# Altium footprint library QFPN.PcbLib: 6 footprints
Each footprint in its own frame and in the unit in brackets; x right, y up, seen from the top. Pads: shape width x height; smd on the part's side, far side on the other; paste and mask are expansions set on the pad; w line width, h text height; cw(c..) or ccw(c..) is an arc to the next point about the centre after c.
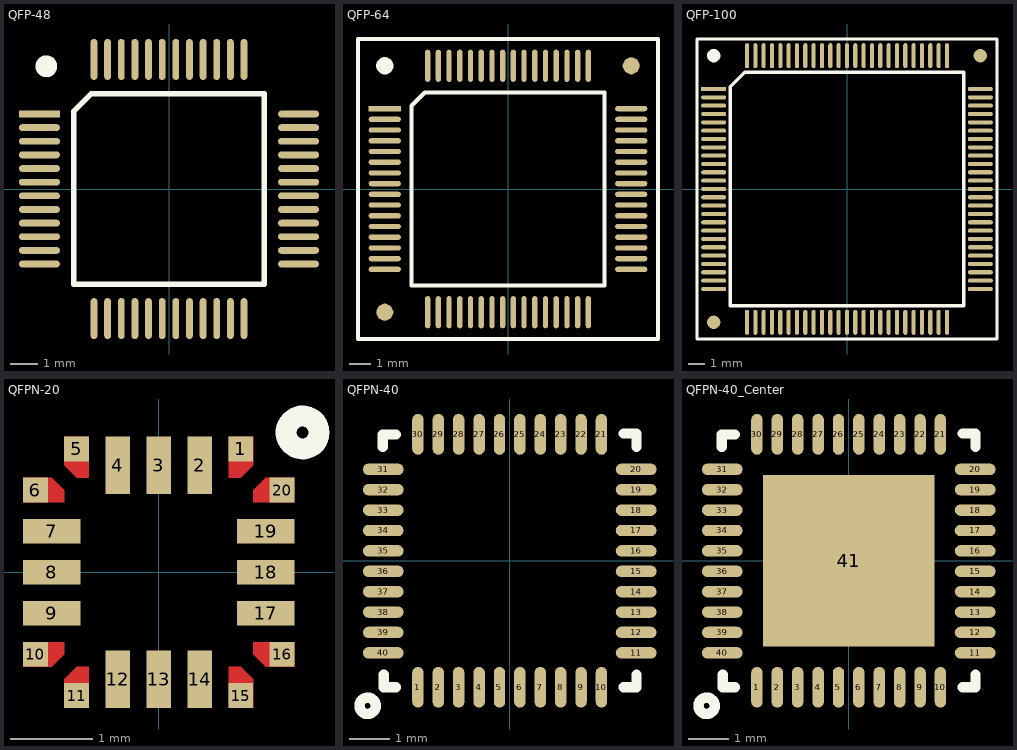
[diagram p0: the footprints below, top view; thin cyan lines are the x and y axes]

## QFP-48 [mm]
pads (48):
  rect 1.5x0.25 smd: 1(-4.75,2.75)
  oval 1.5x0.25 smd: 2(-4.75,2.25) 3(-4.75,1.75) 4(-4.75,1.25) 5(-4.75,0.75) 6(-4.75,0.25) 7(-4.75,-0.25) 8(-4.75,-0.75) 9(-4.75,-1.25) 10(-4.75,-1.75) 11(-4.75,-2.25) 12(-4.75,-2.75) 25(4.75,-2.75) 26(4.75,-2.25) 27(4.75,-1.75) 28(4.75,-1.25) 29(4.75,-0.75) 30(4.75,-0.25) 31(4.75,0.25) 32(4.75,0.75) 33(4.75,1.25) 34(4.75,1.75) 35(4.75,2.25) 36(4.75,2.75)
  oval 0.25x1.5 smd: 13(-2.75,-4.75) 14(-2.25,-4.75) 15(-1.75,-4.75) 16(-1.25,-4.75) 17(-0.75,-4.75) 18(-0.25,-4.75) 19(0.25,-4.75) 20(0.75,-4.75) 21(1.25,-4.75) 22(1.75,-4.75) 23(2.25,-4.75) 24(2.75,-4.75) 37(2.75,4.75) 38(2.25,4.75) 39(1.75,4.75) 40(1.25,4.75) 41(0.75,4.75) 42(0.25,4.75) 43(-0.25,4.75) 44(-0.75,4.75) 45(-1.25,4.75) 46(-1.75,4.75) 47(-2.25,4.75) 48(-2.75,4.75)
Top Overlay:
  circle w0.4: c-4.5,4.5 r0.2
  lines w0.2: -3.5,-3.5 3.5,-3.5 3.5,3.5 -2.85,3.5 -3.5,2.85 -3.5,-3.5

## QFP-64 [mm]
pads (66):
  rect 1.5x0.25 smd: 1(-5.75,3.75)
  oval 1.5x0.25 smd: 2(-5.75,3.25) 3(-5.75,2.75) 4(-5.75,2.25) 5(-5.75,1.75) 6(-5.75,1.25) 7(-5.75,0.75) 8(-5.75,0.25) 9(-5.75,-0.25) 10(-5.75,-0.75) 11(-5.75,-1.25) 12(-5.75,-1.75) 13(-5.75,-2.25) 14(-5.75,-2.75) 15(-5.75,-3.25) 16(-5.75,-3.75) 33(5.75,-3.75) 34(5.75,-3.25) 35(5.75,-2.75) 36(5.75,-2.25) 37(5.75,-1.75) 38(5.75,-1.25) 39(5.75,-0.75) 40(5.75,-0.25) 41(5.75,0.25) 42(5.75,0.75) 43(5.75,1.25) 44(5.75,1.75) 45(5.75,2.25) 46(5.75,2.75) 47(5.75,3.25) 48(5.75,3.75)
  oval 0.25x1.5 smd: 17(-3.75,-5.75) 18(-3.25,-5.75) 19(-2.75,-5.75) 20(-2.25,-5.75) 21(-1.75,-5.75) 22(-1.25,-5.75) 23(-0.75,-5.75) 24(-0.25,-5.75) 25(0.25,-5.75) 26(0.75,-5.75) 27(1.25,-5.75) 28(1.75,-5.75) 29(2.25,-5.75) 30(2.75,-5.75) 31(3.25,-5.75) 32(3.75,-5.75) 49(3.75,5.75) 50(3.25,5.75) 51(2.75,5.75) 52(2.25,5.75) 53(1.75,5.75) 54(1.25,5.75) 55(0.75,5.75) 56(0.25,5.75) 57(-0.25,5.75) 58(-0.75,5.75) 59(-1.25,5.75) 60(-1.75,5.75) 61(-2.25,5.75) 62(-2.75,5.75) 63(-3.25,5.75) 64(-3.75,5.75)
  round 0.8 smd: ""(-5.75,-5.75) ""(5.75,5.75)
Top Overlay:
  circle w0.4: c-5.75,5.75 r0.2
  lines w0.2: -7,-7 -7,7 7,7 7,-7 -7,-7 ; -4.5,-4.5 4.5,-4.5 4.5,4.5 -3.882,4.5 -4.5,3.882 -4.5,-4.5
3D body "lqfp64.sldprt": height 1.6, standoff 0, extent -6.006,-6.006 6.006,6.006

## QFP-100 [mm]
pads (102):
  rect 1.5x0.25 smd: 1(-8,6)
  oval 1.5x0.25 smd: 2(-8,5.5) 3(-8,5) 4(-8,4.5) 5(-8,4) 6(-8,3.5) 7(-8,3) 8(-8,2.5) 9(-8,2) 10(-8,1.5) 11(-8,1) 12(-8,0.5) 13(-8,0) 14(-8,-0.5) 15(-8,-1) 16(-8,-1.5) 17(-8,-2) 18(-8,-2.5) 19(-8,-3) 20(-8,-3.5) 21(-8,-4) 22(-8,-4.5) 23(-8,-5) 24(-8,-5.5) 25(-8,-6) 51(8,-6) 52(8,-5.5) 53(8,-5) 54(8,-4.5) 55(8,-4) 56(8,-3.5) 57(8,-3) 58(8,-2.5) 59(8,-2) 60(8,-1.5) 61(8,-1) 62(8,-0.5) 63(8,0) 64(8,0.5) 65(8,1) 66(8,1.5) 67(8,2) 68(8,2.5) 69(8,3) 70(8,3.5) 71(8,4) 72(8,4.5) 73(8,5) 74(8,5.5) 75(8,6)
  oval 0.25x1.5 smd: 26(-6,-8) 27(-5.5,-8) 28(-5,-8) 29(-4.5,-8) 30(-4,-8) 31(-3.5,-8) 32(-3,-8) 33(-2.5,-8) 34(-2,-8) 35(-1.5,-8) 36(-1,-8) 37(-0.5,-8) 38(0,-8) 39(0.5,-8) 40(1,-8) 41(1.5,-8) 42(2,-8) 43(2.5,-8) 44(3,-8) 45(3.5,-8) 46(4,-8) 47(4.5,-8) 48(5,-8) 49(5.5,-8) 50(6,-8) 76(6,8) 77(5.5,8) 78(5,8) 79(4.5,8) 80(4,8) 81(3.5,8) 82(3,8) 83(2.5,8) 84(2,8) 85(1.5,8) 86(1,8) 87(0.5,8) 88(0,8) 89(-0.5,8) 90(-1,8) 91(-1.5,8) 92(-2,8) 93(-2.5,8) 94(-3,8) 95(-3.5,8) 96(-4,8) 97(-4.5,8) 98(-5,8) 99(-5.5,8) 100(-6,8)
  round 0.8 smd: ""(-8,-8) ""(8,8)
Top Overlay:
  circle w0.4: c-8,8 r0.2
  lines w0.2: -9,-9 9,-9 9,9 -9,9 -9,-9 ; -7,-7 -7,6.125 -6.125,7 7,7 7,-7 -7,-7

## QFPN-20 [mm]
pads (20):
  rect 0.3x0.3 smd mask+0.05: 1(1,1.5) 5(-1,1.5) 6(-1.5,1) 10(-1.5,-1) 11(-1,-1.5) 15(1,-1.5) 16(1.5,-1) 20(1.5,1)
  rect 0.3x0.7 smd mask+0.05: 2(0.5,1.3) 3(0,1.3) 4(-0.5,1.3) 12(-0.5,-1.3) 13(0,-1.3) 14(0.5,-1.3)
  rect 0.7x0.3 smd mask+0.05: 7(-1.3,0.5) 8(-1.3,0) 9(-1.3,-0.5) 17(1.3,-0.5) 18(1.3,0) 19(1.3,0.5)
Top Layer:
  region: -1.15,-0.85 -1.65,-0.85 -1.65,-1.15 -1.3,-1.15 -1.15,-1
  region: -1.15,1.4
  region: -0.85,-1.15 -0.85,-1.65 -1.15,-1.65 -1.15,-1.3 -1,-1.15
  region: 1.15,-0.85 1.65,-0.85 1.65,-1.15 1.3,-1.15 1.15,-1
  region: 0.85,-1.15 0.85,-1.65 1.15,-1.65 1.15,-1.3 1,-1.15
  region: 0.85,1.15 0.85,1.65 1.15,1.65 1.15,1.3 1,1.15
  region: 1.15,0.85 1.65,0.85 1.65,1.15 1.3,1.15 1.15,1
  region: -1.15,0.85 -1.65,0.85 -1.65,1.15 -1.3,1.15 -1.15,1
  region: -0.85,1.15 -0.85,1.65 -1.15,1.65 -1.15,1.3 -1,1.15
Top Overlay:
  circle w0.254: c1.75,1.7 r0.2
Top Solder:
  region: -1.25,-1.21 -1.7,-1.21 -1.7,-0.79 -1.08,-0.79 -1.08,-1.04
  region: -1.21,-1.25 -1.21,-1.7 -0.79,-1.7 -0.79,-1.08 -1.04,-1.08
  region: 1.25,-1.21 1.7,-1.21 1.7,-0.79 1.08,-0.79 1.08,-1.04
  region: 1.21,-1.25 1.21,-1.7 0.79,-1.7 0.79,-1.08 1.04,-1.08
  region: 1.21,1.25 1.21,1.7 0.79,1.7 0.79,1.08 1.04,1.08
  region: 1.25,1.21 1.7,1.21 1.7,0.79 1.08,0.79 1.08,1.04
  region: -1.25,1.21 -1.7,1.21 -1.7,0.79 -1.08,0.79 -1.08,1.04
  region: -1.21,1.25 -1.21,1.7 -0.79,1.7 -0.79,1.08 -1.04,1.08
Mechanical 1:
  region: -1.15,1.5
3D body "User Library-UFQFPN20.step": height 0.6, standoff -0.03, extent -1.525,-1.525 1.525,1.527

## QFPN-40 [mm]
pads (40):
  oval 0.28x1 smd: 1(-2.25,-3.1) 2(-1.75,-3.1) 3(-1.25,-3.1) 4(-0.75,-3.1) 5(-0.25,-3.1) 6(0.25,-3.1) 7(0.75,-3.1) 8(1.25,-3.1) 9(1.75,-3.1) 10(2.25,-3.1) 21(2.25,3.1) 22(1.75,3.1) 23(1.25,3.1) 24(0.75,3.1) 25(0.25,3.1) 26(-0.25,3.1) 27(-0.75,3.1) 28(-1.25,3.1) 29(-1.75,3.1) 30(-2.25,3.1)
  oval 1x0.28 smd: 11(3.1,-2.256) 12(3.1,-1.756) 13(3.1,-1.256) 14(3.1,-0.756) 15(3.1,-0.256) 16(3.1,0.244) 17(3.1,0.744) 18(3.1,1.244) 19(3.1,1.744) 20(3.1,2.244) 31(-3.1,2.244) 32(-3.1,1.744) 33(-3.1,1.244) 34(-3.1,0.744) 35(-3.1,0.244) 36(-3.1,-0.256) 37(-3.1,-0.756) 38(-3.1,-1.256) 39(-3.1,-1.756) 40(-3.1,-2.256)
Top Overlay:
  circle w0.254: c-3.483,-3.556 r0.2
  lines w0.254: -3.114,2.794 -3.114,3.098 -2.794,3.098 ; -3.088,-2.794 -3.088,-3.1 -2.794,-3.1 ; 2.794,-3.1 3.109,-3.1 3.109,-2.794 ; 2.794,3.123 3.109,3.123 3.109,2.794
3D body: height 1, standoff 0, extent -3.175,-3.175 3.175,3.175

## QFPN-40_Center [mm]
pads (41):
  oval 0.28x1 smd: 1(-2.25,-3.1) 2(-1.75,-3.1) 3(-1.25,-3.1) 4(-0.75,-3.1) 5(-0.25,-3.1) 6(0.25,-3.1) 7(0.75,-3.1) 8(1.25,-3.1) 9(1.75,-3.1) 10(2.25,-3.1) 21(2.25,3.1) 22(1.75,3.1) 23(1.25,3.1) 24(0.75,3.1) 25(0.25,3.1) 26(-0.25,3.1) 27(-0.75,3.1) 28(-1.25,3.1) 29(-1.75,3.1) 30(-2.25,3.1)
  oval 1x0.28 smd: 11(3.1,-2.256) 12(3.1,-1.756) 13(3.1,-1.256) 14(3.1,-0.756) 15(3.1,-0.256) 16(3.1,0.244) 17(3.1,0.744) 18(3.1,1.244) 19(3.1,1.744) 20(3.1,2.244) 31(-3.1,2.244) 32(-3.1,1.744) 33(-3.1,1.244) 34(-3.1,0.744) 35(-3.1,0.244) 36(-3.1,-0.256) 37(-3.1,-0.756) 38(-3.1,-1.256) 39(-3.1,-1.756) 40(-3.1,-2.256)
  rect 4.2x4.2 smd: 41(0,0)
Top Overlay:
  circle w0.254: c-3.483,-3.556 r0.2
  lines w0.254: -3.114,2.794 -3.114,3.098 -2.794,3.098 ; -3.088,-2.794 -3.088,-3.1 -2.794,-3.1 ; 2.794,-3.1 3.109,-3.1 3.109,-2.794 ; 2.794,3.123 3.109,3.123 3.109,2.794
3D body: height 1, standoff 0, extent -3.175,-3.175 3.175,3.175